# EAGLE library part TOPWIN-UG-6448HLBEG03 (library topwin-UG-6448HLBEG03)
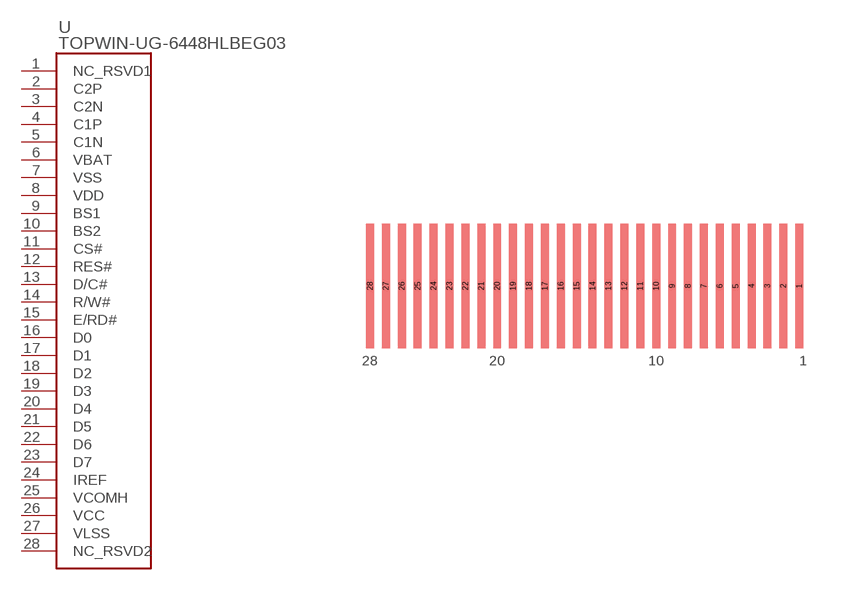
[diagram p0: symbol with the pads of TOPWIN-UG-6448HLBEG03; footprint TOPWIN-UG-6448HLBEG03]

Designator prefix -

## TOPWIN-UG-6448HLBEG03  [TOPWIN-UG-6448HLBEG03]
1  NC_RSVD1  nc
2  C2P
3  C2N
4  C1P
5  C1N
6  VBAT  pwr
7  VSS  pwr
8  VDD  pwr
9  BS1
10  BS2
11  CS#
12  RES#
13  D/C#
14  R/W#
15  E/RD#
16  D0
17  D1
18  D2
19  D3
20  D4
21  D5
22  D6
23  D7
24  IREF  pwr
25  VCOMH  pwr
26  VCC  pwr
27  VLSS  pwr
28  NC_RSVD2  nc

## Footprint TOPWIN-UG-6448HLBEG03 (pad centres in mm)
smd 0.32 x 5: 1 8.64,0; 2 8,0; 3 7.36,0; 4 6.72,0; 5 6.08,0; 6 5.44,0; 7 4.8,0; 8 4.16,0; 9 3.52,0; 10 2.88,0; 11 2.24,0; 12 1.6,0; 13 0.96,0; 14 0.32,0; 15 -0.32,0; 16 -0.96,0; 17 -1.6,0; 18 -2.24,0; 19 -2.88,0; 20 -3.52,0; 21 -4.16,0; 22 -4.8,0; 23 -5.44,0; 24 -6.08,0; 25 -6.72,0; 26 -7.36,0; 27 -8,0; 28 -8.64,0